# Altium schematic symbol library LM2596S.SchLib: 1 symbol
Pins are listed as number, name and electrical type; pins without a type are passive.

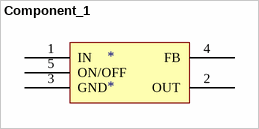
[diagram p0: symbol Component_1]

## Component_1
designator *
pins: 1 IN, 2 OUT, 3 GND, 4 FB, 5 ON/OFF